# Altium schematic symbol library CM3Board_V1I2.SCHLIB: 170 symbols (part 5 of 5)
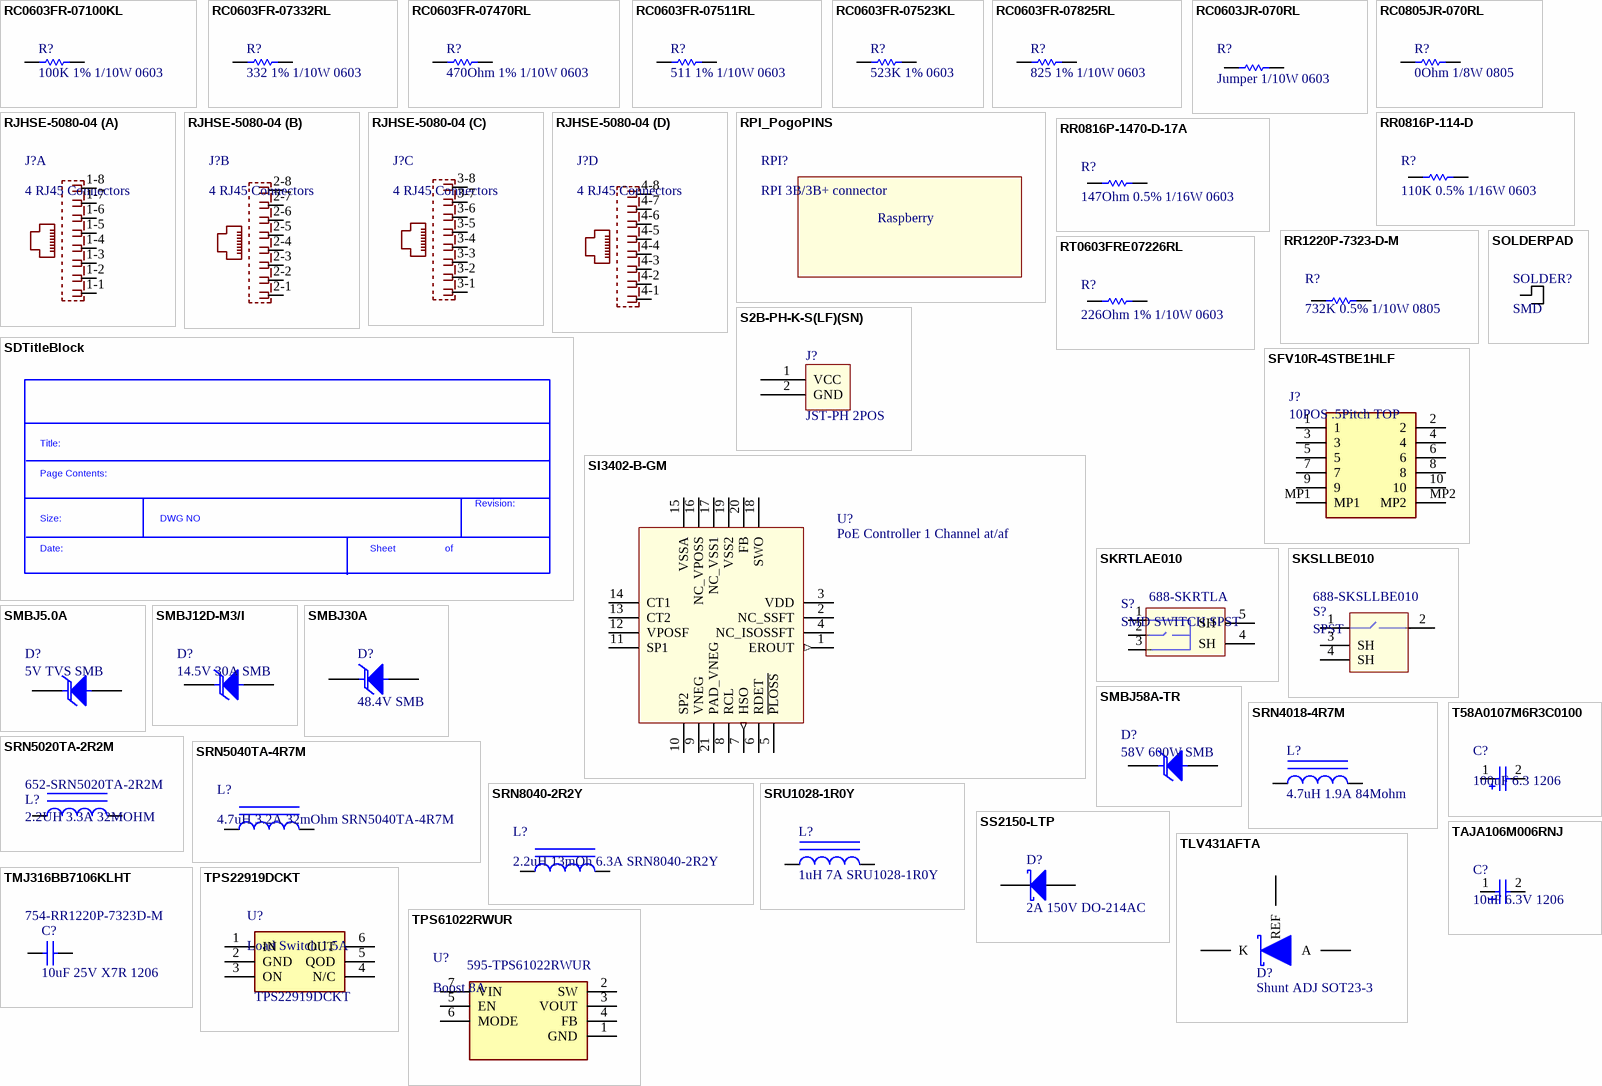
[diagram p9: symbols RC0603FR-07100KL to TPS61022RWUR]

## SMBJ30A
designator D?, comment 48.4V SMB
TVS DIODE 30VWM 48.4VC SMB; Manufacturer: Littelfuse; Manufacturer Part Number: SMBJ30A; Direction: Unidirectional; Peak Pulse Power: 600W; Reverse Standoff Voltage: 30V; Min Breakdown Voltage: 33.3V; Test Current: 1mA; Max Reverse Leakage Current: 1uA; Peak Pulse Current: 12.4A; Element Configuration: Single; Number of Elements: 1; Max Breakdown Voltage: 36.8V; Max Power Dissipation: 5W; Power Line Protection: No; Current: 62A; Supplier 1: Mouser; Stock 1: 14686; Pricing 1: 1=0.59, 10=0.39, 50=0.39, 100=0.264, 1000=0.159, 10000=0.128 (USD); Mount: Surface Mount; Case/Package: SMB; Number of Pins: 2; Min Operating Temperature: -65°C; Max Operating Temperature: 150°C; Packaging: Tape and Reel; Clamping Voltage: 48.4V; Package Quantity: 3000; Max Surge Current: 12.4A; Breakdown Voltage: 33.3V; Polarity: Unidirectional; Reverse Breakdown Voltage: 33.3V; Operating Supply Voltage: 30V; Number of Channels: 1; Power Dissipation: 600W; Leakage Current: 1uA; Termination: SMD/SMT; Voltage Rating (DC): 30V; Number of Unidirectional Channels: 1; Composition: Zener; Voltage: 30V; Length: 4.57mm; Height: 2.237mm; Width: 3.94mm; Radiation Hardening: No; Lead Free: Lead Free; REACH SVHC: No SVHC; ComponentLink1URL: https://www.verical.com/server-webapp/html/getDatasheet?partID=117004; ComponentLink1Description: https://www.verical.com/server-webapp/html/getDatasheet?partID=117004; ComponentLink2URL: http://www.littelfuse.com/~/media/electronics/datasheets/tvs_diodes/littelfuse_tvs_diode_smbj_datasheet.pdf.pdf; ComponentLink2Description: http://www.littelfuse.com/~/media/electronics/datasheets/tvs_diodes/littelfuse_tvs_diode_smbj_datasheet.pdf.pdf; ComponentLink3URL: https://www.littelfuse.com/~/media/electronics/datasheets/tvs_diodes/littelfuse_tvs_diode_smbj_datasheet.pdf.pdf; ComponentLink3Description: https://www.littelfuse.com/~/media/electronics/datasheets/tvs_diodes/littelfuse_tvs_diode_smbj_datasheet.pdf.pdf; ComponentLink4URL: http://www.littelfuse.com/data/en/Data_Sheets/Littelfuse_TVS-Diode_SMBJ.pdf; ComponentLink4Description: http://www.littelfuse.com/data/en/Data_Sheets/Littelfuse_TVS-Diode_SMBJ.pdf; ComponentLink5URL: http://www.farnell.com/datasheets/1794555.pdf; ComponentLink5Description: http://www.farnell.com/datasheets/1794555.pdf; ComponentLink6URL: https://www.distrelec.biz/Web/Downloads/g_/ds/smbj_eng_ds.pdf?mime=application%2Fpdf; ComponentLink6Description: https://www.distrelec.biz/Web/Downloads/g_/ds/smbj_eng_ds.pdf?mime=application%2Fpdf; Supplier Part Number 1: 576-SMBJ30A
footprint SOD DO-214AA-2 (SMB)
pins: 1 K, 2 A

## SMBJ58A-TR
designator D?, comment 58V 600W SMB
TVS Diodes - Transient Voltage Suppressors 600W 58V Unidirect; Manufacturer: STMicroelectronics; Manufacturer Part Number: SMBJ58A-TR; Min Breakdown Voltage: 64.4V; Clamping Voltage: 121V; Test Current: 1mA; Peak Pulse Current: 33A; Direction: Unidirectional; Max Reverse Leakage Current: 200nA; Element Configuration: Single; Number of Elements: 1; Power Line Protection: No; Max Breakdown Voltage: 67.8V; Capacitance: 625pF; Series Resistance: 1.51R; Supplier 1: Mouser; RoHS: Yes; Stock 1: 12816; Pricing 1: 1 = 0,36000, 10 = 0,26800, 50 = 0,26800, 100 = 0,14600, 1000 = 0,10900, 10000 = 0,08800 (USD); Mount: Surface Mount; Case/Package: SMB; Number of Pins: 2; Min Operating Temperature: -55°C; Max Operating Temperature: 150°C; Reverse Standoff Voltage: 58V; Peak Pulse Power: 600W; Packaging: Tape and Reel; Reverse Breakdown Voltage: 64.4V; Package Quantity: 2500; Max Surge Current: 1mA; Number of Unidirectional Channels: 1; Polarity: Unidirectional; Breakdown Voltage: 64.4V; Leakage Current: 200nA; Voltage Rating (DC): 58V; Composition: Zener; Operating Supply Voltage: 58V; Max Power Dissipation: 600W; ESD Protection: No; Length: 4.6mm; Height: 2.45mm; Width: 3.95mm; Radiation Hardening: No; Lead Free: Lead Free; REACH SVHC: No SVHC; ComponentLink1URL: https://datasheet.ciiva.com/7973/1761316-7973625.pdf?src-supplier=Element14; ComponentLink1Description: https://datasheet.ciiva.com/7973/1761316-7973625.pdf?src-supplier=Element14; ComponentLink2URL: https://datasheet.ciiva.com/353/cd00001366-353146.pdf?src-supplier=Digi-Key; ComponentLink2Description: https://datasheet.ciiva.com/353/cd00001366-353146.pdf?src-supplier=Digi-Key; ComponentLink3URL: https://datasheet.ciiva.com/7965/1761316-7965530.pdf?src-supplier=Element14; ComponentLink3Description: https://datasheet.ciiva.com/7965/1761316-7965530.pdf?src-supplier=Element14; ComponentLink4URL: https://datasheet.ciiva.com/43505/1394814-43505386.pdf?src-supplier=Jameco; ComponentLink4Description: https://datasheet.ciiva.com/43505/1394814-43505386.pdf?src-supplier=Jameco; ComponentLink5URL: https://datasheet.ciiva.com/14536/70014015-14536204.pdf?src-supplier=Allied+Electronics; ComponentLink5Description: https://datasheet.ciiva.com/14536/70014015-14536204.pdf?src-supplier=Allied+Electronics; ComponentLink6URL: https://datasheet.ciiva.com/7973/1761316-7973582.pdf?src-supplier=Element14; ComponentLink6Description: https://datasheet.ciiva.com/7973/1761316-7973582.pdf?src-supplier=Element14; Supplier Part Number 1: 511-SMBJ58A-TR
footprint SOD DO-214AA-2 (SMB)
pins: 1 K, 2 A

## SOLDERPAD
designator SOLDER?, comment SMD
footprint SolderPAD
pins: 1

## SRN4018-4R7M
designator L?, comment 4.7uH 1.9A 84Mohm
FIXED IND 4.7UH 1.9A 84 MOHM SMD; Manufacturer: Bourns Inc.; Manufacturer Part Number: SRN4018-4R7M; Type: Wirewound; Material - Core: Ferrite; Tolerance: ±20%; Shielding: Semi-Shielded; DC Resistance (DCR): 84 mOhm Max; Q @ Freq: 9 @ 7.96MHz; Supplier 1: Digi-Key; RoHS: RoHS Compliant; Category: Inductors, Coils, Chokes; Stock 1: 70904; Pricing 1: 1=0.33, 10=0.286, 100=0.2045, 500=0.1718, 1000=0.13908 (EUR); Packaging: Cut Tape (CT); Part Status: Active; Ratings: -; Operating Temperature: -40°C ~ 125°C; Mounting Type: Surface Mount; Package / Case: Nonstandard; Supplier Device Package: -; Size / Dimension: 0.157" L x 0.157" W (4.00mm x 4.00mm); Height - Seated (Max): 0.071" (1.80mm); ComponentLink1URL: http://www.bourns.com/docs/Product-Datasheets/SRN4018.pdf; ComponentLink1Description: http://www.bourns.com/docs/Product-Datasheets/SRN4018.pdf; Supplier Part Number 1: SRN4018-4R7MCT-ND
footprint SRN4018 series
pins: 1, 2

## SRN5020TA-2R2M
designator L?, comment 2.2UH 3.3A 32MOHM  Supplier Part Number 1: 652-SRN5020TA-2R2M
FIXED IND 2.2UH 3.3A 32MOHM SMD; Manufacturer 1: Bourns; Manufacturer Part Number 1: SRN5020TA-2R2M; Supplier 1: Mouser; Stock 1: 2873; Pricing 1: 1=0,32000, 10=0,28100, 25=0,26100, 50=0,22100, 100=0,20000, 250=0,18900, 500=0,16900, 1000=0,13600, 2500=0,13300 (USD); RoHS: No; ComponentLink1URL: https://www.bourns.com/docs/Product-Datasheets/SRN5020TA.pdf?src-supplier=Digi-Key; ComponentLink1Description: https://www.bourns.com/docs/Product-Datasheets/SRN5020TA.pdf?src-supplier=Digi-Key
footprint SRN5020TA2R2M
pins: 1, 2

## SRN5040TA-4R7M
designator L?, comment 4.7uH 3.2A 32mOhm SRN5040TA-4R7M
FIXED IND 4.7UH 3.2A 32MOHM SMD; Manufacturer: Bourns; Supplier 1: Mouser; Manufacturer Part Number: SRN5040TA-4R7M; RoHS: No; Stock 1: 1300; Pricing 1: 1 = 0,32000, 10 = 0,28100, 50 = 0,22100, 100 = 0,20000, 1000 = 0,13600, 10000 = 0,13300 (USD); ComponentLink1URL: https://www.bourns.com/docs/Product-Datasheets/SRN5040TA.pdf?src-supplier=Digi-Key; ComponentLink1Description: https://www.bourns.com/docs/Product-Datasheets/SRN5040TA.pdf?src-supplier=Digi-Key; Supplier Part Number 1: 652-SRN5040TA-4R7M
footprint SRN5040TA4R7M
pins: 1, 2

## SRN8040-2R2Y
designator L?, comment 2.2uH 13mOh 6.3A SRN8040-2R2Y
FIXED IND 2.2UH 6.3A 13 MOHM SMD; Manufacturer: Bourns; Core Material: Ferrite; Material: Steel; Tolerance: 30%; DC Resistance (DCR): 13mR; Shielding: Shielded; Saturation Current: 7.4A; Self Resonant Frequency: 40MHz; Test Frequency: 100kHz; Supplier 1: Mouser; Manufacturer Part Number: SRN8040-2R2Y; RoHS: Yes; Stock 1: 1136; Pricing 1: 1 = 0,57000, 10 = 0,39400, 50 = 0,39400, 100 = 0,35800, 1000 = 0,30100, 10000 = 0,30100 (USD); Mount: Surface Mount; Case/Package: Nonstandard; Number of Pins: 2; Weight: 0.028607oz; Contact Plating: Tin; Min Operating Temperature: -40°C; Max Operating Temperature: 125°C; Inductance: 2.2uH; Max DC Current: 6.3A; Package Quantity: 1000; Packaging: Tape and Reel; Inductance Tolerance: 30%; Current Rating: 6.3A; Termination: SMD/SMT; Composition: Wirewound; DC Current: 6.3A; Military Standard: Not; RMS Current (Irms): 6.3A; Length: 8mm; Height: 4mm; Width: 8mm; Height - Seated (Max): 0.157inch; Depth: 8.3mm; REACH SVHC: No SVHC; ComponentLink1URL: https://datasheet.ciiva.com/11802/0900766b80fe1f3f-11802605.pdf?src-supplier=RSComponents; ComponentLink1Description: https://datasheet.ciiva.com/11802/0900766b80fe1f3f-11802605.pdf?src-supplier=RSComponents; ComponentLink2URL: https://datasheet.ciiva.com/28678/srn8040-28678249.pdf?src-supplier=Element14; ComponentLink2Description: https://datasheet.ciiva.com/28678/srn8040-28678249.pdf?src-supplier=Element14; ComponentLink3URL: https://datasheet.ciiva.com/8515/srn8040-8515258.pdf?src-supplier=Avnet; ComponentLink3Description: https://datasheet.ciiva.com/8515/srn8040-8515258.pdf?src-supplier=Avnet; ComponentLink4URL: https://datasheet.ciiva.com/7847/1865628-7847915.pdf?src-supplier=Element14; ComponentLink4Description: https://datasheet.ciiva.com/7847/1865628-7847915.pdf?src-supplier=Element14; ComponentLink5URL: https://datasheet.ciiva.com/1049/srn8040-1049453.pdf?src-supplier=Digi-Key; ComponentLink5Description: https://datasheet.ciiva.com/1049/srn8040-1049453.pdf?src-supplier=Digi-Key; ComponentLink6URL: https://datasheet.ciiva.com/1049/srn8040-1049454.pdf?src-supplier=Digi-Key; ComponentLink6Description: https://datasheet.ciiva.com/1049/srn8040-1049454.pdf?src-supplier=Digi-Key; ComponentLink7URL: https://datasheet.ciiva.com/1049/srn8040-1049455.pdf?src-supplier=Digi-Key; ComponentLink7Description: https://datasheet.ciiva.com/1049/srn8040-1049455.pdf?src-supplier=Digi-Key; ComponentLink8URL: https://datasheet.ciiva.com/17284/srn8040-17284783.pdf?src-supplier=Avnet+Europe; ComponentLink8Description: https://datasheet.ciiva.com/17284/srn8040-17284783.pdf?src-supplier=Avnet+Europe; ComponentLink9URL: https://datasheet.ciiva.com/48691/001056460-da-01-en-mag-abg-leist-ind-srn8040-2r2y-2-2uh-smd-48691836.pdf?src-supplier=Conrad; ComponentLink9Description: https://datasheet.ciiva.com/48691/001056460-da-01-en-mag-abg-leist-ind-srn8040-2r2y-2-2uh-smd-48691836.pdf?src-supplier=Conrad; Supplier Part Number 1: 652-SRN8040-2R2Y
footprint SRN80408R2Y
pins: 1, 2

## SRU1028-1R0Y
designator L?, comment 1uH 7A SRU1028-1R0Y
FIXED IND 1UH 7A 4.9 MOHM SMD; Manufacturer: Bourns; Core Material: Ferrite; Tolerance: 30%; DC Resistance (DCR): 4.9mR; Self Resonant Frequency: 100MHz; Q Factor: 14; Shielding: Shielded; Saturation Current: 8A; Test Frequency: 100kHz; Supplier 1: Mouser; Manufacturer Part Number: SRU1028-1R0Y; Stock 1: 2414; Pricing 1: 1=0.78, 10=0.672, 50=0.56, 100=0.526, 1000=0.403, 10000=0.403 (USD); Mount: Surface Mount; Case/Package: 1028; Number of Pins: 2; Min Operating Temperature: -40°C; Max Operating Temperature: 125°C; Inductance: 1uh; Max DC Current: 7A; Packaging: Tape and Reel; Package Quantity: 1000; Current Rating: 7A; Composition: Wirewound; Termination: SMD/SMT; DC Current: 7A; Military Standard: Not; Length: 10mm; Height: 2.8mm; Width: 0.394inch; Height - Seated (Max): 0.122inch; Depth: 10.3mm; ComponentLink1URL: http://www.bourns.com/pdfs/SRU1028.pdf?src-supplier=Avnet; ComponentLink1Description: http://www.bourns.com/pdfs/SRU1028.pdf?src-supplier=Avnet; ComponentLink2URL: http://uk.rs-online.com/webdocs/0ddd/0900766b80ddd3fd.pdf?src-supplier=RSComponents; ComponentLink2Description: http://uk.rs-online.com/webdocs/0ddd/0900766b80ddd3fd.pdf?src-supplier=RSComponents; ComponentLink3URL: https://www.alliedelec.com/m/d/538d0d3746e47dd68f16745ba7a8d1cf.pdf?src-supplier=Allied+Electronics; ComponentLink3Description: https://www.alliedelec.com/m/d/538d0d3746e47dd68f16745ba7a8d1cf.pdf?src-supplier=Allied+Electronics; ComponentLink4URL: https://www.bourns.com/docs/Product-Datasheets/SRU1028.pdf?src-supplier=Digi-Key; ComponentLink4Description: https://www.bourns.com/docs/Product-Datasheets/SRU1028.pdf?src-supplier=Digi-Key; ComponentLink5URL: http://www.bourns.com/pdfs/SRU1028.pdf?src-supplier=Avnet+Europe; ComponentLink5Description: http://www.bourns.com/pdfs/SRU1028.pdf?src-supplier=Avnet+Europe; Supplier Part Number 1: 652-SRU1028-1R0Y
footprint SRU1028-1R0Y
pins: 1, 2

## SS2150-LTP
designator D?, comment 2A 150V DO-214AC
DIODE SCHOTTKY 150V 2A DO214AC; Manufacturer: MCC; Manufacturer Part Number: SS2150-LTP; Max Surge Current: 50A; Max Reverse Leakage Current: 500uA; Supplier 1: Mouser; Stock 1: 27781; Pricing 1: 1=0.42, 10=0.28, 50=0.28, 100=0.189, 1000=0.117, 10000=0.092 (USD); Mount: Surface Mount; Number of Pins: 2; Min Operating Temperature: -55°C; Max Operating Temperature: 125°C; Packaging: Tape and Reel; Package Quantity: 1; Average Rectified Current: 2A; Max Reverse Voltage (DC): 150V; Lead Free: Lead Free; ComponentLink1URL: http://www.mouser.com/ds/2/258/SS22-L-SS2150-L(DO-214AC)-478019.pdf; ComponentLink1Description: http://www.mouser.com/ds/2/258/SS22-L-SS2150-L(DO-214AC)-478019.pdf; ComponentLink2URL: http://www.mccsemi.com/up_pdf/SS22-L-SS220-L(DO-214AC).pdf; ComponentLink2Description: http://www.mccsemi.com/up_pdf/SS22-L-SS220-L(DO-214AC).pdf; Supplier Part Number 1: 833-SS2150-LTP
footprint SOD DO-214AC (SMA)
pins: 1 K, 2 A

## T58A0107M6R3C0100
designator C?, comment 100uF 6.3 1206
CAP TANT POLY 100UF 6.3V SMD; Manufacturer: Vishay Sprague; Manufacturer Part Number: T58A0107M6R3C0100; ESR (Equivalent Series Resistance): 100mR; Tolerance: 20%; Life (Hours): 1000Hour; Supplier 1: Mouser; RoHS: Yes; Stock 1: 2259; Pricing 1: 1 = 0,63000, 10 = 0,63000, 50 = 0,58000, 100 = 0,57000, 1000 = 0,46000, 10000 = 0,38000 (USD); Mount: Surface Mount; Case/Package: 1206; Case Code (Metric): 3216; Case Code (Imperial): 1206; Min Operating Temperature: -55°C; Max Operating Temperature: 85°C; Packaging: Tape and Reel; Capacitance: 100uF; Voltage Rating: 6.3V; Features: General Purpose; Length: 0.126inch; Width: 0.063inch; Height - Seated (Max): 0.039inch; ComponentLink1URL: http://www.vishay.com/docs/40189/t58.pdf?src-supplier=Digi-Key; ComponentLink1Description: http://www.vishay.com/docs/40189/t58.pdf?src-supplier=Digi-Key; Supplier Part Number 1: 74-T58A0107M6R3C0100
footprint C+ 1206/3216
pins: 1 P, 2 N

## TAJA106M006RNJ
designator C?, comment 10uF 6.3V 1206
CAP TANT 10UF 6.3V 20% 1206; Manufacturer: Kyocera AVX; Manufacturer Part Number: TAJA106M006RNJ; Dielectric Material: Tantalum; ESR (Equivalent Series Resistance): 4R; Leakage Current: 600nA; Polarity: Polar; Dissipation Factor: 6%; Supplier 1: Mouser; RoHS: Yes; Stock 1: 29046; Pricing 1: 1 = 0,26000, 10 = 0,18100, 50 = 0,18100, 100 = 0,08100, 1000 = 0,06900, 10000 = 0,04900 (USD); Mount: Surface Mount; Case/Package: 1206; Number of Pins: 2; Case Code (Metric): 3216; Case Code (Imperial): 1206; Min Operating Temperature: -55°C; Max Operating Temperature: 125°C; Capacitance: 10uF; Tolerance: 20%; Voltage Rating (DC): 6.3V; Voltage Rating: 6.3V; Package Quantity: 1; Packaging: Tape and Reel; Termination: SMD/SMT; Voltage: 6.3V; Features: General Purpose; Length: 3.2mm; Height: 1.6mm; Width: 0.063inch; Height - Seated (Max): 0.071inch; Depth: 1.6mm; Lead Pitch: 1.1mm; Radiation Hardening: No; REACH SVHC: No SVHC; Lead Free: Lead Free; ComponentLink1URL: https://datasheet.ciiva.com/263/taj-263344.pdf?src-supplier=Digi-Key; ComponentLink1Description: https://datasheet.ciiva.com/263/taj-263344.pdf?src-supplier=Digi-Key; ComponentLink2URL: https://datasheet.ciiva.com/263/taj-263345.pdf?src-supplier=Digi-Key; ComponentLink2Description: https://datasheet.ciiva.com/263/taj-263345.pdf?src-supplier=Digi-Key; ComponentLink3URL: https://datasheet.ciiva.com/3004/taj-3004389.pdf?src-supplier=Avnet; ComponentLink3Description: https://datasheet.ciiva.com/3004/taj-3004389.pdf?src-supplier=Avnet; ComponentLink4URL: https://datasheet.ciiva.com/16486/taj-16486101.pdf?src-supplier=Avnet+Asia; ComponentLink4Description: https://datasheet.ciiva.com/16486/taj-16486101.pdf?src-supplier=Avnet+Asia; ComponentLink5URL: https://datasheet.ciiva.com/14608/70001050-14608167.pdf?src-supplier=Allied+Electronics; ComponentLink5Description: https://datasheet.ciiva.com/14608/70001050-14608167.pdf?src-supplier=Allied+Electronics; ComponentLink6URL: https://datasheet.ciiva.com/16287/taj-16287351.pdf?src-supplier=Future+Electronics; ComponentLink6Description: https://datasheet.ciiva.com/16287/taj-16287351.pdf?src-supplier=Future+Electronics; ComponentLink7URL: https://datasheet.ciiva.com/14600/70001050-14600969.pdf?src-supplier=Allied+Electronics; ComponentLink7Description: https://datasheet.ciiva.com/14600/70001050-14600969.pdf?src-supplier=Allied+Electronics; ComponentLink8URL: https://datasheet.ciiva.com/12883/taj-27497-12883066.pdf?src-supplier=Mouser; ComponentLink8Description: https://datasheet.ciiva.com/12883/taj-27497-12883066.pdf?src-supplier=Mouser; ComponentLink9URL: https://datasheet.ciiva.com/7730/49917-7730715.pdf?src-supplier=Element14; ComponentLink9Description: https://datasheet.ciiva.com/7730/49917-7730715.pdf?src-supplier=Element14; ComponentLink10URL: https://datasheet.ciiva.com/263/taj-263343.pdf?src-supplier=Digi-Key; ComponentLink10Description: https://datasheet.ciiva.com/263/taj-263343.pdf?src-supplier=Digi-Key; ComponentLink11URL: https://datasheet.ciiva.com/5936/49917-5936831.pdf?src-supplier=Farnell; ComponentLink11Description: https://datasheet.ciiva.com/5936/49917-5936831.pdf?src-supplier=Farnell; ComponentLink12URL: https://datasheet.ciiva.com/11223/taj-11223535.pdf?src-supplier=Avnet; ComponentLink12Description: https://datasheet.ciiva.com/11223/taj-11223535.pdf?src-supplier=Avnet; Supplier Part Number 1: 581-TAJA106M006R
footprint C+ 1206/3216
pins: 1 P, 2 N

## TLV431AFTA
designator D?, comment Shunt ADJ SOT23-3
IC VREF SHUNT ADJ SOT23; Manufacturer: Diodes Zetex; Manufacturer Part Number: TLV431AFTA; Max Input Voltage: 20V; Output Voltage: 18V; Max Output Current: 15mA; Reference Type: Adjustable,Shunt; Tolerance: 1%; Min Output Voltage: 1.24V; Cathode Current: 100uA; Output Type: Adjustable; Supplier 1: Mouser; Stock 1: 29019; Pricing 1: 1=0.44, 10=0.333, 50=0.333, 100=0.18, 1000=0.135, 10000=0.117 (USD); Mount: Surface Mount; Case/Package: SOT-23; Number of Pins: 3; Weight: 0.000282oz; Min Operating Temperature: -40°C; Max Operating Temperature: 125°C; Packaging: Tape and Reel; Package Quantity: 3000; Max Output Voltage: 18V; Output Current: 15mA; Reference Voltage: 18V; Length: 3.04mm; Height: 1.3mm; Width: 1.8mm; Radiation Hardening: No; REACH SVHC: No SVHC; Lead Free: Lead Free; ComponentLink1URL: https://www.diodes.com/assets/Datasheets/TLV431.pdf; ComponentLink1Description: https://www.diodes.com/assets/Datasheets/TLV431.pdf; ComponentLink2URL: http://www.diodes.com/datasheets/TLV431.pdf; ComponentLink2Description: http://www.diodes.com/datasheets/TLV431.pdf; ComponentLink3URL: http://www.mouser.com/ds/2/115/TLV431-54265.pdf; ComponentLink3Description: http://www.mouser.com/ds/2/115/TLV431-54265.pdf; ComponentLink4URL: http://www.farnell.com/datasheets/2100168.pdf; ComponentLink4Description: http://www.farnell.com/datasheets/2100168.pdf; Supplier Part Number 1: 621-TLV431AFTA
footprint SOT-23-3 (SOT23, 3-Leads, Body 2.92x1.3mm, Pitch 0.95mm)
pins: 1 REF, 2 K, 3 A

## TMJ316BB7106KLHT
designator C?, comment 10uF 25V X7R 1206  Supplier Part Number 2: 754-RR1220P-7323D-M
10µF 25V Ceramic Capacitor X7R 1206 (3216 Metric) 0.126" L x 0.063" W (3.20mm x 1.60mm); Manufacturer: Taiyo Yuden; Manufacturer Part Number: TMJ316BB7106KLHT; Tolerance: 10%; Resistance: 732kR; Power Rating: 100mW; Temperature Coefficient: 25ppm/°C; Voltage Rating (DC): 100V; Supplier 1: Mouser; Stock 1: 22857; Pricing 1: 1=0.45, 10=0.263, 50=0.263, 100=0.207, 1000=0.163, 10000=0.163 (USD); Mount: Surface Mount; Case/Package: 1206; Case Code (Metric): 3216; Case Code (Imperial): 1206; Min Operating Temperature: -55°C; Max Operating Temperature: 125°C; Packaging: Tape and Reel; Capacitance: 10uF; Voltage Rating: 25V; Dielectric: X7R; Features: Soft Termination; Length: 0.126inch; Width: 0.063inch; Thickness: 0.071inch; Ratings: AEC-Q200; Supplier Part Number 1: 963-TMJ316BB7106KLHT; Supplier 2: Mouser; RoHS: Yes; Stock 2: 9745; Pricing 2: 1 = 0,10000, 10 = 0,08500, 50 = 0,08500, 100 = 0,03500, 1000 = 0,01600, 10000 = 0,01200 (USD); Weight: 0.000194oz; Package Quantity: 5000; Composition: Thin Film; Termination: SMD/SMT; Number of Terminations: 2; Max Power Dissipation: 100mW; Height: 0.02inch; Lead Free: Lead Free; ComponentLink1URL: https://datasheet.ciiva.com/2631/rrseriesresistorspecifications-2631102.pdf?src-supplier=Digi-Key; ComponentLink1Description: https://datasheet.ciiva.com/2631/rrseriesresistorspecifications-2631102.pdf?src-supplier=Digi-Key
footprint C 1206/3216
pins: 1, 2

## TPS22919DCKT
designator U?, comment Load Switch 1.5A
Circuitos integrados de interruptor de alimentaci&oacute;n - Distribuci&oacute;n de alimentaci&oacute;n 5.5V, 1.5A, 100m? Load Switch with Adjustable Quick Output Discharge; Manufacturer: Texas Instruments; Manufacturer Part Number: TPS22919DCKT; Supplier 1: Mouser; Stock 1: 989; Pricing 1: 1=0.4, 10=0.33, 50=0.33, 100=0.203, 1000=0.157, 10000=0.125 (USD); Supplier Part Number 1: 595-TPS22919DCKT
footprint SOT65P210X110-6N
pins: 1 IN, 2 GND, 3 ON, 4 N/C, 5 QOD, 6 OUT

## TPS61022RWUR
designator U?, comment Boost 8A  Supplier Part Number 1: 595-TPS61022RWUR
Reguladores de tensión de conmutación FINISH GOODS FOR TPS61022; Manufacturer: Texas Instruments; Manufacturer Part Number: TPS61022RWUR; Supplier 1: Mouser; RoHS: No; Stock 1: 2647; Pricing 1: 1 = 1,68000, 10 = 1,43000, 50 = 1,43000, 100 = 1,14000, 1000 = 0,82900, 10000 = 0,71500 (USD)
footprint TPS61022RWUR
pins: 1 GND, 2 SW, 3 VOUT, 4 FB, 5 EN, 6 MODE, 7 VIN

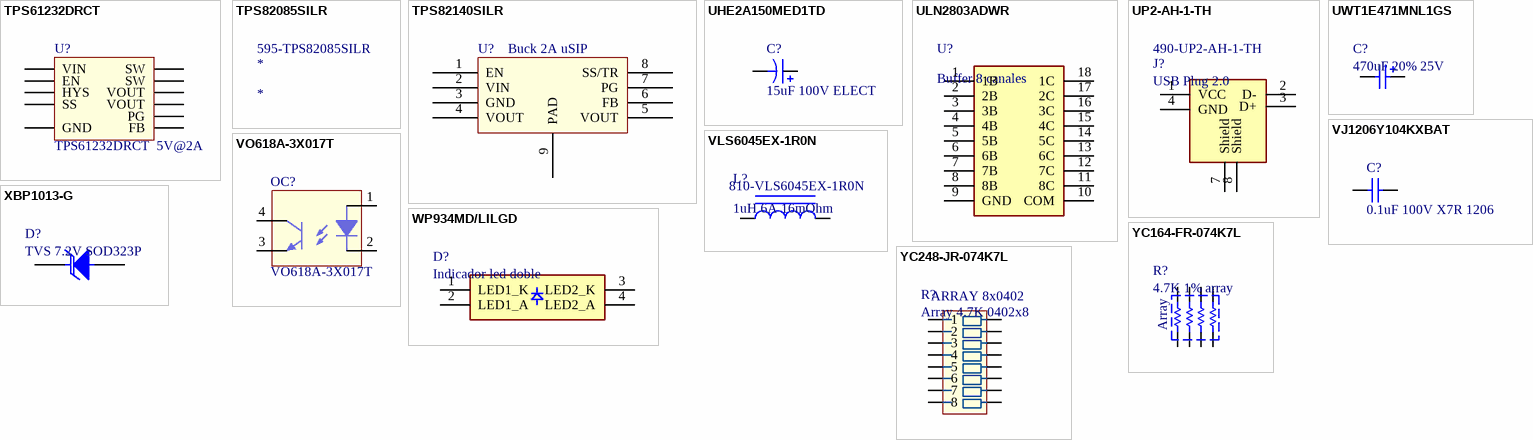
[diagram p5: symbols TPS61232DRCT to YC248-JR-074K7L]

## TPS61232DRCT
designator U?, comment TPS61232DRCT  5V@2A
TEXAS INSTRUMENTS   TPS61232DRCT   Synchronous Boost (Step Up) Switching Regulator, Fixed, 2.3V-5.5V In, 5V And 2.1A Out, SON-10; Min Input Voltage: 2.3V; Max Input Voltage: 5.5V; Number of Outputs: 1; Efficiency: 96%; Switching Frequency: 2MHz; Synchronous Rectifier: Yes; Operating Supply Current: 35uA; Output Configuration: Positive; Supplier 1: Mouser; Manufacturer: Texas Instruments; Manufacturer Part Number: TPS61232DRCT; Stock 1: 1452; Pricing 1: 1=2.83, 10=2.41, 50=2.41, 100=1.93, 1000=1.4, 10000=1.26 (USD); Mount: Surface Mount; Number of Pins: 10; Weight: 0.000921oz; Contact Plating: Gold; Min Operating Temperature: -40°C; Max Operating Temperature: 85°C; Output Current: 2.1A; Nominal Output Voltage: 5V; Packaging: Tape and Reel; Output Voltage: 5V; Max Output Current: 2.1A; Min Output Voltage: 5V; Package Quantity: 250; Min Supply Voltage: 2.3V; Quiescent Current: 35uA; Topology: Boost; Operating Supply Voltage: 5.5V; Output Type: Fixed; REACH SVHC: No SVHC; Lead Free: Lead Free; ComponentLink1URL: http://www.farnell.com/datasheets/1902710.pdf?src-supplier=Element14; ComponentLink1Description: http://www.farnell.com/datasheets/1902710.pdf?src-supplier=Element14; Supplier Part Number 1: 595-TPS61232DRCT
footprint 10-pin VSON (3.1X3.1 AND 0.5MM PITCH)
pins: 1 SW, 2 SW, 3 VOUT, 4 VOUT, 5 PG, 6 SS, 7 FB, 8 HYS, 9 EN, 10 VIN, 11 GND

## TPS82085SILR
designator *  Supplier Part Number 1: 595-TPS82085SILR
IC REG BUCK ADJ 3A SYNC 8USIP; Manufacturer: Texas Instruments; Manufacturer Part Number: TPS82085SILR; Number of Outputs: 1; Output Voltage: 6V; Min Input Voltage: 2.5V; Efficiency: 95%; Quiescent Current: 17uA; Switching Frequency: 2.4MHz; Output Type: Adjustable; Supplier 1: Mouser; RoHS: Yes; Stock 1: 28980; Pricing 1: 1 = 3,43000, 10 = 3,08000, 50 = 3,08000, 100 = 2,53000, 1000 = 1,82000, 10000 = 1,73000 (USD); Mount: Surface Mount; Case/Package: SIL; Number of Pins: 8; Min Operating Temperature: -40°C; Max Operating Temperature: 125°C; Max Output Current: 3A; Max Input Voltage: 6V; Operating Supply Voltage: 6V; Lead Free: Lead Free; ComponentLink1URL: http://www.ti.com/lit/ds/symlink/tps82085.pdf?src-supplier=Farnell; ComponentLink1Description: http://www.ti.com/lit/ds/symlink/tps82085.pdf?src-supplier=Farnell; ComponentLink2URL: http://www.ti.com/lit/ds/symlink/tps82085.pdf?src-supplier=Newark; ComponentLink2Description: http://www.ti.com/lit/ds/symlink/tps82085.pdf?src-supplier=Newark; ComponentLink3URL: http://www.ti.com/lit/ds/symlink/tps82085.pdf?src-supplier=Digi-Key; ComponentLink3Description: http://www.ti.com/lit/ds/symlink/tps82085.pdf?src-supplier=Digi-Key; ComponentLink4URL: http://www.ti.com/general/docs/lit/getliterature.tsp?genericPartNumber=TPS82085&&fileType=pdf&src-supplier=Avnet; ComponentLink4Description: http://www.ti.com/general/docs/lit/getliterature.tsp?genericPartNumber=TPS82085&&fileType=pdf&src-supplier=Avnet; ComponentLink5URL: http://www.ti.com/general/docs/lit/getliterature.tsp?genericPartNumber=TPS82085&&fileType=pdf&src-supplier=Avnet+Asia; ComponentLink5Description: http://www.ti.com/general/docs/lit/getliterature.tsp?genericPartNumber=TPS82085&&fileType=pdf&src-supplier=Avnet+Asia

## TPS82140SILR
designator U?, comment Buck 2A uSIP
Convertidores CC/CC no aislados 17V Input 2A Synchronous Step-Down Converter MicroSiP Module With Integrated Inductor 8-uSiP -40 to 125; Manufacturer: Texas Instruments; Manufacturer Part Number: TPS82140SILR; Supplier 1: Mouser; Stock 1: 26558; Pricing 1: 1=3.38, 10=3.04, 50=3.04, 100=2.49, 1000=1.79, 10000=1.7 (USD); Min Operating Temperature: -40°C; Max Operating Temperature: 125°C; Supplier Part Number 1: 595-TPS82140SILR
footprint uSIP-8
pins: 1 EN, 2 VIN, 3 GND, 4 VOUT, 5 VOUT, 6 FB, 7 PG, 8 SS/TR, 9 PAD

## UHE2A150MED1TD
designator C?, comment 15uF 100V ELECT
NICHICON         UHE2A150MED1TD             ALUMINUM ELECTROLYTIC CAPACITOR, 15UF, 100V, 20%, RADIAL; Dielectric Material: Aluminium; ESR (Equivalent Series Resistance): 5R; Polarity: Polar; Ripple Current: 69.3mA; Impedance: 1.2R; Life (Hours): 5000Hour; Supplier 1: Mouser; Manufacturer: Nichicon; Manufacturer Part Number: UHE2A150MED1TD; Stock 1: 2310; Pricing 1: 1=0.39, 10=0.275, 50=0.226, 100=0.165, 1000=0.105, 10000=0.094 (USD); Mount: Through Hole; Case/Package: Radial; Number of Pins: 2; Weight: 0.01lb; Min Operating Temperature: -40°C; Max Operating Temperature: 105°C; Voltage Rating: 100V; Capacitance: 15uF; Tolerance: 20%; Packaging: Tape and Reel; Package Quantity: 2000; Termination: Radial; Voltage Rating (DC): 100V; Diameter: 6.3mm; Length: 2inch; Height: 11mm; Width: 0.5inch; Lead Pitch: 0.098inch; Height - Seated (Max): 0.492inch; REACH SVHC: No SVHC; Supplier Part Number 1: 647-UHE2A150MED1TD
footprint UHE2A150MED1TD (D=6.3)
pins: 1 +, 2 -

## ULN2803ADWR
designator U?, comment Buffer 8 canales
Transistores Darlington TRANSISTOR ARRAYS; Manufacturer: Texas Instruments; Manufacturer Part Number: ULN2803ADWR; Polarity: NPN; Collector Emitter Voltage (VCEO): 50V; Max Collector Current: 500mA; Number of Elements: 8; Collector Emitter Saturation Voltage: 1.1V; Supplier 1: Mouser; Stock 1: 222648; Pricing 1: 1=1.41, 10=1.2, 50=1.2, 100=0.921, 1000=0.642, 10000=0.548 (USD); Mount: Surface Mount; Case/Package: SOIC; Number of Pins: 18; Contact Plating: Gold; Min Operating Temperature: -65°C; Max Operating Temperature: 150°C; Packaging: Tape and Reel; Package Quantity: 1; Collector Emitter Breakdown Voltage: 50V; Number of Drivers: 8; Voltage Rating (DC): 50V; Current Rating: 500mA; Length: 11.62mm; Height: 2.35mm; Width: 7.52mm; Radiation Hardening: No; Lead Free: Lead Free; REACH SVHC: No SVHC; ComponentLink1URL: http://www.ti.com/general/docs/lit/getliterature.tsp?genericPartNumber=ULN2803A&amp;&amp;fileType=pdf&src-supplier=Newark; ComponentLink1Description: http://www.ti.com/general/docs/lit/getliterature.tsp?genericPartNumber=ULN2803A&amp;&amp;fileType=pdf&src-supplier=Newark; ComponentLink2URL: https://www.verical.com/server-webapp/html/getDatasheet?partID=134747&src-supplier=Verical; ComponentLink2Description: https://www.verical.com/server-webapp/html/getDatasheet?partID=134747&src-supplier=Verical; ComponentLink3URL: http://www.farnell.com/datasheets/1992213.pdf?src-supplier=Element14; ComponentLink3Description: http://www.farnell.com/datasheets/1992213.pdf?src-supplier=Element14; ComponentLink4URL: http://www.jameco.com/Jameco/Products/ProdDS/1927351.pdf?src-supplier=Jameco; ComponentLink4Description: http://www.jameco.com/Jameco/Products/ProdDS/1927351.pdf?src-supplier=Jameco; ComponentLink5URL: http://www.ti.com/lit/ds/symlink/uln2803a.pdf?src-supplier=Avnet; ComponentLink5Description: http://www.ti.com/lit/ds/symlink/uln2803a.pdf?src-supplier=Avnet; ComponentLink6URL: http://www.farnell.com/datasheets/1887697.pdf?src-supplier=Element14; ComponentLink6Description: http://www.farnell.com/datasheets/1887697.pdf?src-supplier=Element14; ComponentLink7URL: http://www.farnell.com/datasheets/2020638.pdf?src-supplier=Element14; ComponentLink7Description: http://www.farnell.com/datasheets/2020638.pdf?src-supplier=Element14; ComponentLink8URL: http://www.ti.com/lit/ds/symlink/uln2803a.pdf?src-supplier=Digi-Key; ComponentLink8Description: http://www.ti.com/lit/ds/symlink/uln2803a.pdf?src-supplier=Digi-Key; Supplier Part Number 1: 595-ULN2803ADWR
footprint SOIC127P1030X265-18N
pins: 1 1B, 2 2B, 3 3B, 4 4B, 5 5B, 6 6B, 7 7B, 8 8B, 9 GND, 10 COM, 11 8C, 12 7C, 13 6C, 14 5C, 15 4C, 16 3C, 17 2C, 18 1C

## UP2-AH-1-TH
designator J?, comment USB Plug 2.0  Supplier Part Number 1: 490-UP2-AH-1-TH
CONN PLUG USB2.0 TYPEA 4POS R/A; Manufacturer 1: CUI; Manufacturer Part Number 1: UP2-AH-1-TH; Number of Contacts: 4; Supplier 1: Mouser; Stock 1: 0; RoHS: Yes; Mount: Through Hole,Horizontal; Packaging: Tray; Connector Type: Plug; Orientation: Horizontal; Features: Shielded; Lead Free: Lead Free; ComponentLink1URL: https://www.cui.com/product/resource/digikeypdf/up2-ah-th.pdf?src-supplier=Digi-Key; ComponentLink1Description: https://www.cui.com/product/resource/digikeypdf/up2-ah-th.pdf?src-supplier=Digi-Key
footprint UP2-AH-1-TH
pins: 1 VCC, 2 D-, 3 D+, 4 GND, 7 Shield, 8 Shield

## UWT1E471MNL1GS
designator C?, comment 470uF 20% 25V
CAP ALUM 470UF 20% 25V SMD; Manufacturer: Nichicon; Manufacturer Part Number: UWT1E471MNL1GS; Dielectric Material: Aluminium; Ripple Current: 300mA; Leakage Current: 3uA; Life (Hours): 1000Hour; Dissipation Factor: 0.16%; Lead Diameter: 1.1mm; Supplier 1: Mouser; RoHS: Yes; Stock 1: 16366; Pricing 1: 1 = 0,59000, 10 = 0,42300, 50 = 0,36100, 100 = 0,27900, 1000 = 0,17600, 10000 = 0,15500 (USD); Mount: Surface Mount; Case/Package: Radial; Number of Pins: 2; Min Operating Temperature: -55°C; Max Operating Temperature: 105°C; Capacitance: 470uF; Tolerance: 20%; Voltage Rating: 25V; Packaging: Tape and Reel; Package Quantity: 500; Voltage Rating (DC): 25V; Ripple Current (AC): 300mA; Termination: SMD/SMT; Voltage: 25V; Diameter: 10mm; Length: 10mm; Height: 10mm; Lead Pitch: 4.5mm; Height - Seated (Max): 0.394inch; Radiation Hardening: No; REACH SVHC: No SVHC; Lead Free: Lead Free; ComponentLink1URL: https://datasheet.ciiva.com/11781/0900766b80fa3a91-11781973.pdf?src-supplier=RSComponents; ComponentLink1Description: https://datasheet.ciiva.com/11781/0900766b80fa3a91-11781973.pdf?src-supplier=RSComponents; ComponentLink2URL: https://datasheet.ciiva.com/97/e-wt-97493.pdf?src-supplier=Digi-Key; ComponentLink2Description: https://datasheet.ciiva.com/97/e-wt-97493.pdf?src-supplier=Digi-Key; ComponentLink3URL: https://datasheet.ciiva.com/97/e-wt-97494.pdf?src-supplier=Digi-Key; ComponentLink3Description: https://datasheet.ciiva.com/97/e-wt-97494.pdf?src-supplier=Digi-Key; ComponentLink4URL: https://datasheet.ciiva.com/7851/e-wt-7851574.pdf?src-supplier=Element14; ComponentLink4Description: https://datasheet.ciiva.com/7851/e-wt-7851574.pdf?src-supplier=Element14; ComponentLink5URL: https://datasheet.ciiva.com/97/e-wt-97495.pdf?src-supplier=Digi-Key; ComponentLink5Description: https://datasheet.ciiva.com/97/e-wt-97495.pdf?src-supplier=Digi-Key; ComponentLink6URL: https://datasheet.ciiva.com/11685/e-wt-11685847.pdf?src-supplier=Avnet; ComponentLink6Description: https://datasheet.ciiva.com/11685/e-wt-11685847.pdf?src-supplier=Avnet; ComponentLink7URL: https://datasheet.ciiva.com/15199/getdatasheetpartid-442438-15199271.pdf?src-supplier=Verical; ComponentLink7Description: https://datasheet.ciiva.com/15199/getdatasheetpartid-442438-15199271.pdf?src-supplier=Verical; ComponentLink8URL: https://datasheet.ciiva.com/17355/e-wt-17355001.pdf?src-supplier=Avnet+Europe; ComponentLink8Description: https://datasheet.ciiva.com/17355/e-wt-17355001.pdf?src-supplier=Avnet+Europe; Supplier Part Number 1: 647-UWT1E471MNL1S
footprint UWT1E471MNL1GS
pins: 1 P, 2 N

## VJ1206Y104KXBAT
designator C?, comment 0.1uF 100V X7R 1206
Multilayer Ceramic Capacitors MLCC - SMD/SMT .1uF 100volts 10%; Manufacturer: Vishay Vitramon; Manufacturer Part Number: VJ1206Y104KXBAT; Capacitance: 100nF; Supplier 1: Mouser; Stock 1: 115515; Pricing 1: 1=0.13, 10=0.13, 50=0.106, 100=0.102, 1000=0.094, 10000=0.085 (USD); Mount: Surface Mount; Case/Package: 1206; Number of Pins: 2; Weight: 0.000571oz; Case Code (Imperial): 1206; Case Code (Metric): 3216; Min Operating Temperature: -55°C; Max Operating Temperature: 125°C; Tolerance: 10%; Dielectric: X7R; Packaging: Tape and Reel; Voltage Rating (DC): 100V; Voltage Rating: 100V; Package Quantity: 3000; Termination: SMD/SMT; Length: 3.2mm; Depth: 1.6mm; Width: 1.6mm; Radiation Hardening: No; REACH SVHC: Unknown; Lead Free: Lead Free; ComponentLink1URL: http://www.vishay.com/docs/45199/vjcommercialseries.pdf; ComponentLink1Description: http://www.vishay.com/docs/45199/vjcommercialseries.pdf; ComponentLink2URL: http://www.farnell.com/datasheets/2049140.pdf; ComponentLink2Description: http://www.farnell.com/datasheets/2049140.pdf; ComponentLink3URL: http://www.farnell.com/datasheets/50102.pdf; ComponentLink3Description: http://www.farnell.com/datasheets/50102.pdf; Supplier Part Number 1: 77-VJ1206Y104KXBAT
footprint C 1206/3216
pins: 1, 2

## VLS6045EX-1R0N
designator L?, comment 1uH 6A 16mOhm  Supplier Part Number 1: 810-VLS6045EX-1R0N
FIXED IND 1UH 6A 16 MOHM SMD; Manufacturer: TDK; Manufacturer Part Number: VLS6045EX-1R0N; Core Material: Ferrite; Shielding: Shielded; DC Resistance (DCR): 16mR; Test Frequency: 100kHz; Saturation Current: 12A; Tolerance: 30%; Supplier 1: Mouser; RoHS: Yes; Stock 1: 13341; Pricing 1: 1 = 0,52000, 10 = 0,37300, 50 = 0,37300, 100 = 0,34500, 1000 = 0,29900, 10000 = 0,17200 (USD); Mount: Surface Mount; Case/Package: Nonstandard; Min Operating Temperature: -40°C; Max Operating Temperature: 105°C; Packaging: Cut Tape; Composition: Wirewound; Inductance: 1uH; Current Rating: 6A; RMS Current (Irms): 6A; Inductance Tolerance: 30%; Length: 0.236inch; Width: 0.236inch; Height - Seated (Max): 0.177inch; REACH SVHC: No SVHC; ComponentLink1URL: http://www.farnell.com/datasheets/2294922.pdf?src-supplier=Farnell; ComponentLink1Description: http://www.farnell.com/datasheets/2294922.pdf?src-supplier=Farnell; ComponentLink2URL: https://media.digikey.com/pdf/Data%20Sheets/TDK%20PDFs/VLS-EX_Series_Br.pdf?src-supplier=Digi-Key; ComponentLink2Description: https://media.digikey.com/pdf/Data%20Sheets/TDK%20PDFs/VLS-EX_Series_Br.pdf?src-supplier=Digi-Key; ComponentLink3URL: http://www.farnell.com/datasheets/1951810.pdf?src-supplier=Element14; ComponentLink3Description: http://www.farnell.com/datasheets/1951810.pdf?src-supplier=Element14; ComponentLink4URL: https://product.tdk.com/info/en/catalog/datasheets/inductor_commercial_power_vls6045ex_en.pdf?src-supplier=Digi-Key; ComponentLink4Description: https://product.tdk.com/info/en/catalog/datasheets/inductor_commercial_power_vls6045ex_en.pdf?src-supplier=Digi-Key
footprint VLS6045EX1R0N
pins: 1, 2

## VO618A-3X017T
designator OC?
Transistor Output Optocouplers Phototransistor Out CTR 100-200%; Manufacturer: Vishay Semiconductors; Max Power Dissipation: 150mW; Collector Emitter Voltage (VCEO): 80V; Collector Emitter Saturation Voltage: 400mV; Max Collector Current: 50mA; Max Input Current: 60mA; Number of Channels: 1; Reverse Breakdown Voltage: 6V; Forward Voltage: 1.1V; Isolation Voltage: 5.3kV; Current Transfer Ratio: 100%; Supplier 1: Mouser; Manufacturer Part Number: VO618A-3X017T; Stock 1: 16525; Pricing 1: 1=0.99, 10=0.704, 50=0.704, 100=0.528, 1000=0.33, 10000=0.293 (USD); Mount: Surface Mount; Case/Package: SMD/SMT; Number of Pins: 4; Contact Plating: Tin; Min Operating Temperature: -55°C; Max Operating Temperature: 110°C; Packaging: Tape and Reel; Package Quantity: 1; Forward Current: 60mA; Max Output Voltage: 80V; Output Current per Channel: 50mA; Number of Elements: 1; Power Dissipation: 150mW; Input Current: 60mA; Radiation Hardening: No; REACH SVHC: Unknown; Lead Free: Lead Free; ComponentLink1URL: http://www.vishay.com/docs/83432/vo618a.pdf; ComponentLink1Description: http://www.vishay.com/docs/83432/vo618a.pdf; ComponentLink2URL: http://www.vishay.com/docs/83713/options.pdf; ComponentLink2Description: http://www.vishay.com/docs/83713/options.pdf; Supplier Part Number 1: 78-VO618A-3X017T
footprint SMD4-7
pins: 1 ANODE, 2 CATHODE, 3 E, 4 C

## WP934MD/LILGD
designator D?, comment Indicador led doble
Indicadores LED de placas de circuito 3mm 617/568nm Bi-lvl LED INDICATOR; Manufacturer: Kingbright; Manufacturer Part Number: WP934MD/LILGD; Color: Green,Red; Current: 30mA; Luminous Intensity: 0.6mcd; Viewing Angle: 40°; Lens Style: Diffused,Tinted; Voltage Rating: 1.7V; Supplier 1: Mouser; Stock 1: 2939; Pricing 1: 1=1.09, 10=0.921, 50=0.718, 100=0.625, 1000=0.398, 10000=0.369 (USD); Supplier Part Number 1: 604-WP934MDLILGD
footprint WP934MDLILGD
pins: 1 LED1_K, 2 LED1_A, 3 LED2_K, 4 LED2_A

## XBP1013-G
designator D?, comment TVS 7.2V SOD323P
Supresores de ESD / diodos TVS; Manufacturer: Torex; Manufacturer Part Number: XBP1013-G; Supplier 1: Mouser; Stock 1: 4841; Pricing 1: 1=0.18, 10=0.12, 50=0.12, 100=0.081, 1000=0.05, 10000=0.038 (USD); Supplier Part Number 1: 865-XBP1013-G
footprint SOD-323P
pins: 1 K, 2 A

## YC164-FR-074K7L
designator R?, comment 4.7K 1% array
Redes y matrices de resistencias 4.7K 1% CONVEX SQUARE 4X0603; Manufacturer: Yageo; Manufacturer Part Number: YC164-FR-074K7L; Resistance: 4.7kR; Number of Resistors: 4; Temperature Coefficient: 200ppm/°C; Voltage Rating: 50V; Circuit Type: Isolated; Power Per Element: 62.5mW; Supplier 1: Mouser; Stock 1: 17575; Pricing 1: 1=0.16, 10=0.1, 50=0.1, 100=0.034, 1000=0.023, 10000=0.016 (USD); Mount: Surface Mount; Case/Package: 1206; Number of Pins: 8; Number of Terminals: 8; Case Code (Metric): 3216; Case Code (Imperial): 1206; Min Operating Temperature: -55°C; Max Operating Temperature: 155°C; Tolerance: 1%; Number of Elements: 4; Packaging: Tape and Reel; Military Standard: Not; Termination: Convex; Number of Circuits: 4; Length: 0.126inch; Height: 0.028inch; Width: 0.063inch; Terminal Pitch: 0.8mm; Depth: 1.6mm; Radiation Hardening: No; REACH SVHC: Unknown; Lead Free: Lead Free; ComponentLink1URL: http://www.farnell.com/datasheets/443424.pdf?src-supplier=Element14; ComponentLink1Description: http://www.farnell.com/datasheets/443424.pdf?src-supplier=Element14; ComponentLink2URL: http://www.yageo.com/documents/recent/PYu-YC_TC164_51_RoHS_L_3.pdf?src-supplier=Avnet+Europe; ComponentLink2Description: http://www.yageo.com/documents/recent/PYu-YC_TC164_51_RoHS_L_3.pdf?src-supplier=Avnet+Europe; Supplier Part Number 1: 603-YC164-FR-074K7L
footprint R 0603 EXB38v-4array
pins: 1, 2, 3, 4, 5, 6, 7, 8
text: Array

## YC248-JR-074K7L
designator R?, comment Array 4.7K 0402x8
RES ARRAY 8 RES 4.7K OHM 1606; Manufacturer 1: Yageo; Manufacturer Part Number 1: YC248-JR-074K7L; Resistance: 4.7kR; Number of Resistors: 8; Temperature Coefficient: 200ppm/°C; Tolerance: 5%; Voltage Rating: 50V; Circuit Type: Isolated; Power Per Element: 62.5mW; Number of Contacts: 16; Supplier 1: Mouser; Stock 1: 7603; Pricing 1: 1=0,31000, 10=0,19200, 100=0,06500, 1000=0,04400, 5000=0,03300, 10000=0,03100, 25000=0,02900, 50000=0,02800 (USD); RoHS: Yes; Mount: Surface Mount; Case/Package: 0616; Number of Pins: 16; Number of Terminals: 16; Case Code (Metric): 1640; Case Code (Imperial): 0616; Min Operating Temperature: -55°C; Max Operating Temperature: 155°C; Number of Elements: 8; Package Quantity: 1; Packaging: Tape and Reel; Military Standard: Not; Termination: Convex; Number of Circuits: 8; Length: 0.157inch; Height: 0.022inch; Width: 0.063inch; Terminal Pitch: 0.5mm; Depth: 1.6mm; Radiation Hardening: No; REACH SVHC: Unknown; Lead Free: Lead Free; ComponentLink1URL: https://datasheet.ciiva.com/8311/pyu-yc248-51-rohs-l-2-8311734.pdf?src-supplier=Avnet; ComponentLink1Description: https://datasheet.ciiva.com/8311/pyu-yc248-51-rohs-l-2-8311734.pdf?src-supplier=Avnet; ComponentLink2URL: https://datasheet.ciiva.com/28380/pyu-yc248-51-rohs-l-2-28380408.pdf?src-supplier=Avnet+Europe; ComponentLink2Description: https://datasheet.ciiva.com/28380/pyu-yc248-51-rohs-l-2-28380408.pdf?src-supplier=Avnet+Europe; ComponentLink3URL: https://datasheet.ciiva.com/2689/pyu-r-marking-2-2689433.pdf?src-supplier=Digi-Key; ComponentLink3Description: https://datasheet.ciiva.com/2689/pyu-r-marking-2-2689433.pdf?src-supplier=Digi-Key; ComponentLink4URL: https://datasheet.ciiva.com/2689/pyu-r-marking-2-2689434.pdf?src-supplier=Digi-Key; ComponentLink4Description: https://datasheet.ciiva.com/2689/pyu-r-marking-2-2689434.pdf?src-supplier=Digi-Key; ComponentLink5URL: https://datasheet.ciiva.com/2689/pyu-r-marking-2-2689435.pdf?src-supplier=Digi-Key; ComponentLink5Description: https://datasheet.ciiva.com/2689/pyu-r-marking-2-2689435.pdf?src-supplier=Digi-Key; ComponentLink6URL: https://datasheet.ciiva.com/8018/443139-8018062.pdf?src-supplier=Element14; ComponentLink6Description: https://datasheet.ciiva.com/8018/443139-8018062.pdf?src-supplier=Element14; ComponentLink7URL: https://datasheet.ciiva.com/8018/443139-8018063.pdf?src-supplier=Element14; ComponentLink7Description: https://datasheet.ciiva.com/8018/443139-8018063.pdf?src-supplier=Element14; Supplier Part Number 1: 603-YC248-JR-074K7L
footprint YAG_YC248-M
pins: 1, 2, 3, 4, 5, 6, 7, 8, 9, 10, 11, 12, 13, 14, 15, 16
text: ARRAY 8x0402